# Altium schematic symbol library DRV8837DSGR.SchLib: 1 symbol
Pins are listed as number, name and electrical type; pins without a type are passive.

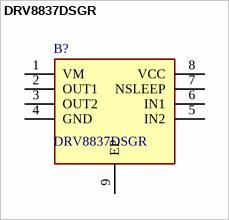
[diagram p0: symbol DRV8837DSGR]

## DRV8837DSGR
designator B?
1.8A Low Voltage Brushed DC Motor Driver (PWM Ctrl); Manufacturer_Name: Texas Instruments; Geometry.Height: 0.8mm; Mouser Part Number: 595-DRV8837DSGR; Mouser Price/Stock: https://www.mouser.co.uk/ProductDetail/Texas-Instruments/DRV8837DSGR?qs=l6ZoeTYLMwO0pKIJ8222Ww%3D%3D; Manufacturer_Part_Number: DRV8837DSGR; Datasheet Link: http://www.ti.com/lit/gpn/drv8837
footprint SON50P200X200X80-9N
pins: 1 VM, 2 OUT1, 3 OUT2, 4 GND, 5 IN2, 6 IN1, 7 NSLEEP, 8 VCC, 9 EP